# EAGLE library part N8263 (library dec-con)
4 3-1 Multiplexers, XOR with DOT input
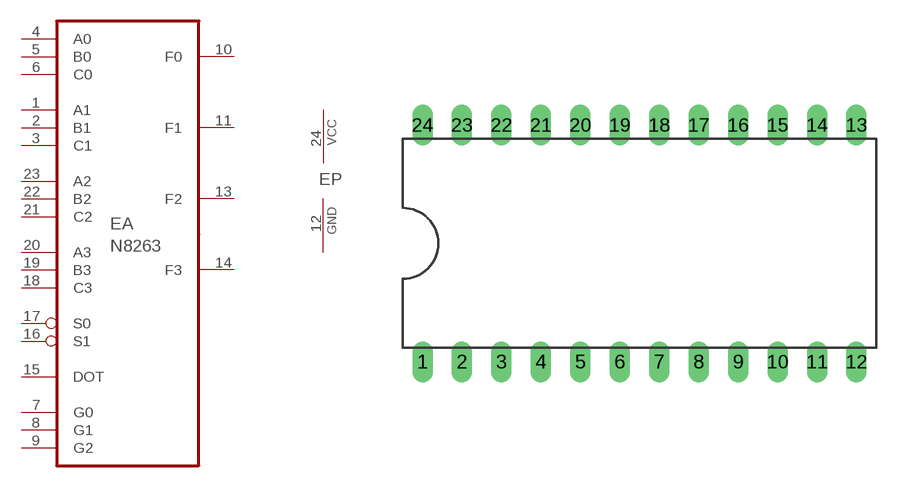
[diagram p98: symbol with the pads of DIL24; footprint DIL24]

Designator prefix E; gates A=N8263 P=PWRN

## N8263  [DIL24]
1  A:A1  in
2  A:B1  in
3  A:C1  in
4  A:A0  in
5  A:B0  in
6  A:C0  in
7  A:G0  in
8  A:G1  in
9  A:G2  in
10  A:F0  out
11  A:F1  out
12  P:GND  pwr
13  A:F2  out
14  A:F3  out
15  A:DOT  in
16  A:S1  in
17  A:S0  in
18  A:C3  in
19  A:B3  in
20  A:A3  in
21  A:C2  in
22  A:B2  in
23  A:A2  in
24  P:VCC  pwr

## Footprint DIL24 (pad centres in mm)
24 Pin Wide DIP
drill 0.813 long: 1 -12.7,-7.62; 2 -10.16,-7.62; 3 -7.62,-7.62; 4 -5.08,-7.62; 5 -2.54,-7.62; 6 0,-7.62; 7 2.54,-7.62; 8 5.08,-7.62; 9 7.62,-7.62; 10 10.16,-7.62; 11 12.7,-7.62; 12 15.24,-7.62; 13 15.24,7.62; 14 12.7,7.62; 15 10.16,7.62; 16 7.62,7.62; 17 5.08,7.62; 18 2.54,7.62; 19 0,7.62; 20 -2.54,7.62; 21 -5.08,7.62; 22 -7.62,7.62; 23 -10.16,7.62; 24 -12.7,7.62